# Altium footprint library TF-01A.PcbLib: 1 footprints
Each footprint in its own frame and in the unit in brackets; x right, y up, seen from the top. Pads: shape width x height; smd on the part's side, far side on the other; paste and mask are expansions set on the pad; w line width, h text height; cw(c..) or ccw(c..) is an arc to the next point about the centre after c.
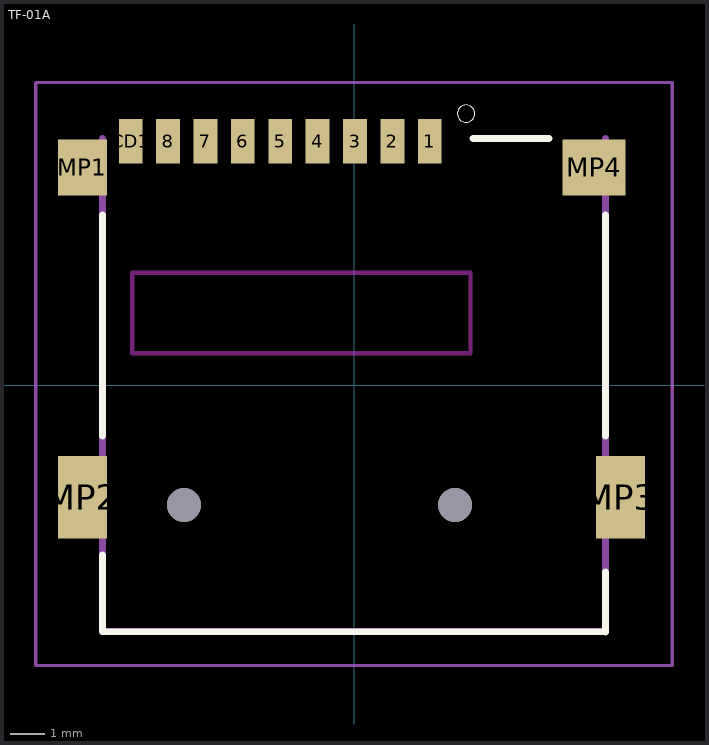
[diagram p0: the footprint, top view; thin cyan lines are the x and y axes]

## TF-01A [mm]
pads (15):
  rect 0.7x1.3 smd: 1(2.23,7.174) 2(1.13,7.174) 3(0.03,7.174) 4(-1.07,7.174) 5(-2.17,7.174) 6(-3.27,7.174) 7(-4.37,7.174) 8(-5.47,7.174) CD1(-6.57,7.174)
  rect 1.448x1.651 smd: MP1(-7.989,6.4)
  rect 1.448x2.438 smd: MP2(-7.989,-3.3) MP3(7.836,-3.3)
  rect 1.854x1.651 smd: MP4(7.061,6.4)
  round 1 hole 1 unplated: ""(-5.004,-3.531) ""(2.972,-3.531)
Top Overlay:
  circle w0: c3.296,7.984 r0.254
  lines w0.203: -7.4,-5 -7.399,-7.25 7.399,-7.263 7.4,-5.5 ; -7.4,-1.5 -7.4,5 ; 3.5,7.25 5.738,7.25 ; 7.4,-1.5 7.4,5
Keep-Out Layer:
  lines w0.127: -6.528,0.94 3.429,0.94 3.429,3.302 -6.528,3.302 -6.528,0.94
Mechanical 13:
  lines w0.1: -9.36,-8.25 9.36,-8.25 9.36,8.9 -9.36,8.9 -9.36,-8.25
  lines w0.2: -7.4,7.25 -7.4,-7.25 7.4,-7.25 7.4,7.25
3D body "step_temp.STEP": height 2, standoff -0.45, extent -8.066,-7.693 8.034,7.507